# Altium schematic symbol library cat.SchLib: 117 symbols (part 4 of 4)
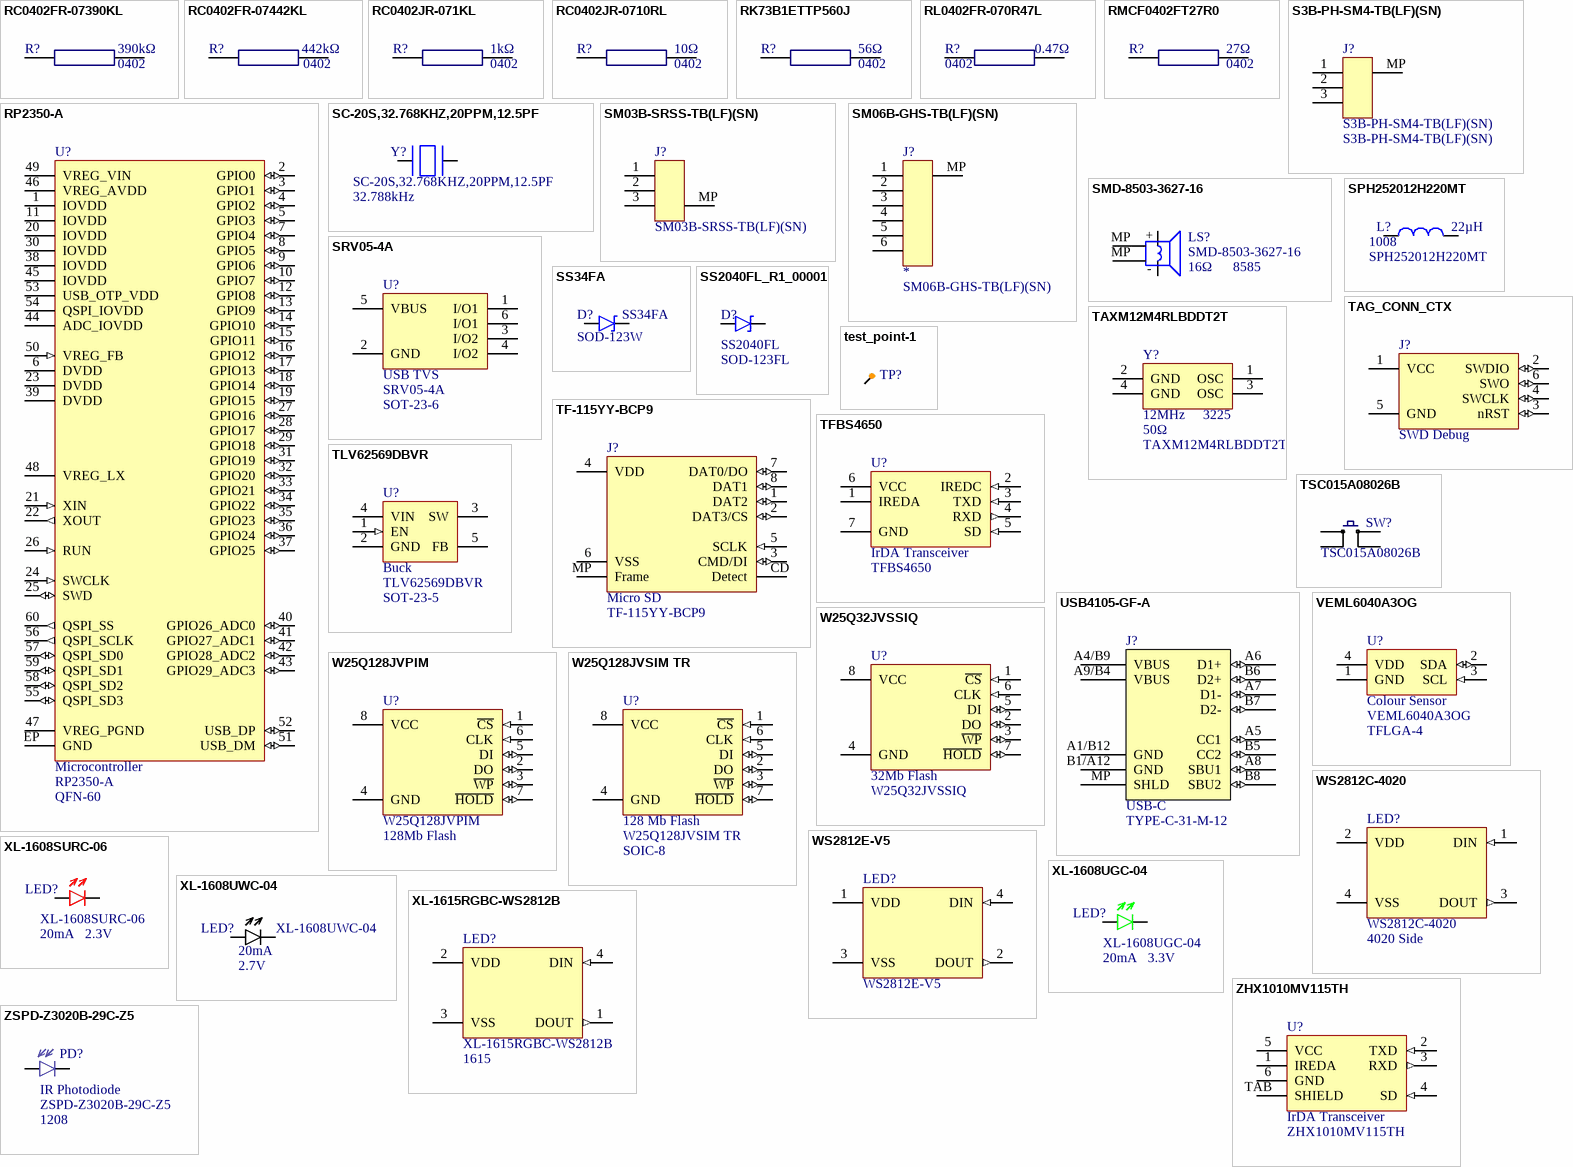
[diagram p5: symbols RC0402FR-07390KL to ZSPD-Z3020B-29C-Z5]

## S3B-PH-SM4-TB(LF)(SN)
designator J?
3-Pin JST-PH connector, 2mm pitch, right-angle SMD; Manufacturer: JST; Current Rating: 2A; Voltage Rating: 100V; Contact Resistance: 10mR; Number of Poles: 3; Insulation Resistance: 1GR; Gender: Male; Connector Type: Header; Supplier 1: LCSC; RoHS: Yes; Category: Headers and Wire Housings; Stock 1: 30540; Pricing 1: 5=0.223, 50=0.1765, 150=0.1538, 1000=0.1202, 2000=0.1152, 5000=0.1122 (USD); Mounting Technology: Surface Mount; Contact Material: Copper Alloy,Tin,Bronze,Brass; Contact Plating: Tin,Copper; Color: Natural,White; Housing Color: Beige; Housing Material: Polyamide; Material: Polyamide; Contact Shape: Square; Insulation Material: Nylon; Insulation Color: Natural; Contact Finish - Mating: TIN; Weight: 28.349523g; Min Operating Temperature: -25°C; Max Operating Temperature: 85°C; Number of Rows: 1; Voltage Rating (AC): 100V; Max Current Rating: 2A; Packaging: Tape and Reel; Number of Positions: 3; Termination: Solder; Fastening Type: Detent; Number of Contacts: 3; Working Voltage: 100V; Max Voltage Rating (AC): 100V; Max Voltage Rating (DC): 100V; Orientation: Right Angle; Contact Type: Male Pin; Voltage Rating (DC): 100V; Length: 9.9mm; Width: 5mm; Height: 9.4mm; Lead Pitch: 2mm; Pitch: 2mm; Contact Mating Length: 0.13inch; Depth: 7.6mm; Reach SVHC Compliant: No; Flammability Rating: UL94 V-0; Lead Free: 5697LeadFree; ComponentLink1URL: https://datasheet.ciiva.com/11748/0900766b80df0d9d-11748720.pdf?src-supplier=Rs; ComponentLink1Description: https://datasheet.ciiva.com/11748/0900766b80df0d9d-11748720.pdf?src-supplier=Rs; ComponentLink2URL: https://datasheet.ciiva.com/712/eph-712555.pdf?src-supplier=Digikey; ComponentLink2Description: https://datasheet.ciiva.com/712/eph-712555.pdf?src-supplier=Digikey; ComponentLink3URL: https://datasheet.ciiva.com/712/eph-712554.pdf?src-supplier=Digikey; ComponentLink3Description: https://datasheet.ciiva.com/712/eph-712554.pdf?src-supplier=Digikey; ComponentLink4URL: https://datasheet.ciiva.com/712/eph-712556.pdf?src-supplier=Digikey; ComponentLink4Description: https://datasheet.ciiva.com/712/eph-712556.pdf?src-supplier=Digikey; ComponentLink5URL: https://datasheet.ciiva.com/8052/80594-8052219.pdf?src-supplier=Element14; ComponentLink5Description: https://datasheet.ciiva.com/8052/80594-8052219.pdf?src-supplier=Element14; ComponentLink6URL: https://datasheet.ciiva.com/22693/80594-22693485.pdf?src-supplier=Element14; ComponentLink6Description: https://datasheet.ciiva.com/22693/80594-22693485.pdf?src-supplier=Element14; Supplier Part Number 1: C265101; Series: PH; house_part_number: S3B-PH-SM4-TB(LF)(SN); Manufacturer Part Number: S3B-PH-SM4-TB(LF)(SN)
footprint S3B-PH-SM4-TB
pins: 1, 2, 3, MP

## SC-20S,32.768KHZ,20PPM,12.5PF
designator Y?  Frequency: 32.788kHz
32.768kHz Crystal, 12.5pf, 2012; Manufacturer: Seiko; Supplier 1: LCSC; Supplier Part Number 1: C97607; Manufacturer Part Number: SC-20S,32.768KHZ,20PPM,12.5PF; RoHS: No; Stock: 8860; Pricing: 5=0.2255, 50=0.1827, 150=0.1644, 500=0.1415, 3000=0.1313, 6000=0.1252 (USD); house_part_number: SC-20S,32.768KHZ,20PPM,12.5PF
footprint 2012_crystal (2.0 × 1.2 × 0.6 mm Crystal)
pins: 1, 2

## SM03B-SRSS-TB(LF)(SN)
designator J?
3-Pin JST-SH connector, 1mm pitch, right-angle SMD; Manufacturer: JST; Supplier 1: LCSC; RoHS: Yes; Category: Connectors; Stock 1: 559145; Pricing 1: 5=0.1423, 50=0.1131, 150=0.0988, 500=0.086, 3000=0.0797, 6000=0.0776 (USD); ComponentLink1URL: https://datasheet.ciiva.com/26894/getdatasheetpartid-708885-26894671.pdf?src-supplier=Verical; ComponentLink1Description: https://datasheet.ciiva.com/26894/getdatasheetpartid-708885-26894671.pdf?src-supplier=Verical; ComponentLink2URL: https://datasheet.ciiva.com/16394/sm03b-srss-tblfsn-16394332.pdf?src-supplier=Future+Electronics; ComponentLink2Description: https://datasheet.ciiva.com/16394/sm03b-srss-tblfsn-16394332.pdf?src-supplier=Future+Electronics; ComponentLink3URL: https://datasheet.ciiva.com/8052/91630-8052263.pdf?src-supplier=Element14; ComponentLink3Description: https://datasheet.ciiva.com/8052/91630-8052263.pdf?src-supplier=Element14; Supplier Part Number 1: C160403; house_part_number: SM03B-SRSS-TB; Manufacturer Part Number: SM03B-SRSS-TB(LF)(SN)
footprint SM03B-SRSS-TB
pins: 1, 2, 3, MP

## SM06B-GHS-TB(LF)(SN)
designator J?  Manufacturer Part Number: SM06B-GHS-TB(LF)(SN)
6-Pin JST GH header, 1.25mm pitch, SMD right angle; Supplier 1: LCSC; Manufacturer: JST; RoHS: Yes; Category: Headers and Wire Housings; Stock 1: 1425; Pricing 1: 5=0.1587, 50=0.1251, 150=0.1087, 500=0.094, 2500=0.09, 5000=0.0876 (USD); ComponentLink1URL: https://datasheet.ciiva.com/25617/0900766b810cef18-25617251.pdf?src-supplier=Rs; ComponentLink1Description: https://datasheet.ciiva.com/25617/0900766b810cef18-25617251.pdf?src-supplier=Rs; ComponentLink2URL: https://datasheet.ciiva.com/16487/jstsm06b-ghs-tb-lf-sn-16487196.pdf?src-supplier=Future+Electronics; ComponentLink2Description: https://datasheet.ciiva.com/16487/jstsm06b-ghs-tb-lf-sn-16487196.pdf?src-supplier=Future+Electronics; Supplier Part Number 1: C133065
footprint SM06B-GHS-TB
pins: 1, 2, 3, 4, 5, 6, MP

## SMD-8503-3627-16
designator LS?  Resistance: 16Ω  package: 8585  (hidden comment: SMD-8503-3627-16)
16 Ω, 8.5 mm x 8.5 mm, SMD speaker; Manufacturer: S&S; Supplier 1: LCSC; RoHS: No; Category: Uncategorized; Stock 1: 6390; Pricing 1: 5=0.2676, 50=0.2148, 150=0.1922, 1000=0.1559, 2000=0.1433, 5000=0.1358 (USD); Supplier Part Number 1: C2685545; house_part_number: SMD-8503-3627-16; Manufacturer Part Number: SMD-8503-3627-16
footprint 8585_speaker
pins: +, -, MP (power), MP (power)

## SPH252012H220MT
designator L?  value 22µH  Case/Package: 1008  (hidden comment: SPH252012H220MT)
22 μH, .55A, 1008 Inductor; Manufacturer: Sunlord; Supplier: Digikey; Supplier Part Number: 3442-SPH252012H220MTCT-ND; RoHS: No; Category: Fixed Inductors; Stock: 945; Pricing: 1=0.35, 10=0.303, 25=0.2776, 50=0.2524, 100=0.2247, 250=0.21208, 500=0.1818, 1000=0.1616 (USD); RoHS Compliant: No; Manufacturer Part Number: SPH252012H220MT
footprint INDC2520X12N (Chip Inductor, 2-Leads, Body 2.50x2.00mm, IPC Medium Density)
pins: 1, 2

## SRV05-4A
designator U?, comment USB TVS  Case/Package: SOT-23-6  Manufacturer Part Number: SRV05-4A
TVS DIODE ARRAY SOT23-6; Manufacturer: SMC Diodes; Direction: Unidirectional,Bidirectional; Capacitance: 3.5pF; Operating Supply Voltage: 1.1V; Number of Channels: 2; Breakdown Voltage: 6V; Clamping Voltage: 17V; Reverse Standoff Voltage: 5.25V; Power Line Protection: Yes; Test Current: 1mA; Max Reverse Leakage Current: 150nA; Peak Pulse Current: 5A; Element Configuration: Dual; Data Rate: 480Mbps; Number of Elements: 1; Working Voltage: 5V; RoHS: Yes; Category: TVS Diodes; Stock: 12000; Pricing: 3000=0,05640 (USD); Mount: Surface Mount; Number of Pins: 6; Contact Plating: Tin,Matte; Min Operating Temperature: -40°C; Max Operating Temperature: 125°C; Packaging: Tape and Reel; Package Quantity: 3000; Termination: SMD/SMT; Number of Bidirectional Channels: 2; Min Breakdown Voltage: 6V; ESD Protection: Yes; Leakage Current: 150nA; Series: USB; Reverse Breakdown Voltage: 6V; Polarity: Unidirectional,Bidirectional; Max Breakdown Voltage: 6V; Clamping Voltage-Max: 17V; Length: 3.05mm; Width: 1.75mm; Height: 1.3mm; Depth: 1.75mm; Radiation Hardening: No; REACH SVHC: No SVHC; Lead Free: Lead Free; RoHS Compliant: Yes; ComponentLink1URL: https://datasheet.ciiva.com/1268/1690354-1268384.pdf?src-supplier=Element14; ComponentLink1Description: https://datasheet.ciiva.com/1268/1690354-1268384.pdf?src-supplier=Element14; ComponentLink2URL: https://datasheet.ciiva.com/4508/cd00050750-113117-4508433.pdf?src-supplier=Mouser; ComponentLink2Description: https://datasheet.ciiva.com/4508/cd00050750-113117-4508433.pdf?src-supplier=Mouser; ComponentLink3URL: https://datasheet.ciiva.com/15143/getdatasheetpartid-148465-15143789.pdf?src-supplier=Verical; ComponentLink3Description: https://datasheet.ciiva.com/15143/getdatasheetpartid-148465-15143789.pdf?src-supplier=Verical; ComponentLink4URL: https://datasheet.ciiva.com/16200/cd00050750-16200026.pdf?src-supplier=Future+Electronics; ComponentLink4Description: https://datasheet.ciiva.com/16200/cd00050750-16200026.pdf?src-supplier=Future+Electronics; ComponentLink5URL: https://datasheet.ciiva.com/41444/001184109-da-01-en-ic-esd-protecti-usblc6-2sc6-sot-23-6-stm-41444156.pdf?src-supplier=Conrad; ComponentLink5Description: https://datasheet.ciiva.com/41444/001184109-da-01-en-ic-esd-protecti-usblc6-2sc6-sot-23-6-stm-41444156.pdf?src-supplier=Conrad; Supplier 1: LCSC; Supplier Part Number 1: C260410; house_part_number: SRV05-4A
footprint SOT95P280X110-6N (SOT23, 6-Leads, Body 2,90x2,80mm, Pitch 0,95mm, IPC Medium Density)
pins: 1 I/O1, 2 GND, 3 I/O2, 4 I/O2, 5 VBUS, 6 I/O1

## SS34FA
designator D?  Case/Package: SOD-123W  (hidden comment: SS34FA)
40 V, 3 A Schottky Rectifier, SOD-123FA; Manufacturer: ON Semiconductor / Fairchild; house_part_number: D-SCHOTTKY-3A-SOD123F-002; Max Forward Surge Current (Ifsm): 80A; Max Repetitive Reverse Voltage (Vrrm): 40V; Average Rectified Current: 3A; Element Configuration: Single; Supplier: Avnet; Supplier Part Number: 01AC9736; RoHS: Yes; Category: Schottky Diodes; Stock: 2402; Pricing: 1=0.469, 25=0.4, 50=0.341, 100=0.281, 250=0.251 (USD); Mounting Technology: Surface Mount; Weight: 0.019g; Packaging: Cut Tape; Max Reverse Voltage (DC): 40V; Series: Automotive, AEC-Q101; RoHS Compliant: Yes; ComponentLink1URL: http://www.farnell.com/datasheets/2552647.pdf?src-supplier=Farnell; ComponentLink1Description: http://www.farnell.com/datasheets/2552647.pdf?src-supplier=Farnell; ComponentLink2URL: http://www.mouser.com/ds/2/149/SS34FA-1012641.pdf?src-supplier=Mouser; ComponentLink2Description: http://www.mouser.com/ds/2/149/SS34FA-1012641.pdf?src-supplier=Mouser; ComponentLink3URL: http://www.farnell.com/datasheets/2552647.pdf?src-supplier=Element14; ComponentLink3Description: http://www.farnell.com/datasheets/2552647.pdf?src-supplier=Element14; ComponentLink4URL: http://www.farnell.com/datasheets/2552647.pdf?src-supplier=Newark; ComponentLink4Description: http://www.farnell.com/datasheets/2552647.pdf?src-supplier=Newark; ComponentLink5URL: https://www.fairchildsemi.com/datasheets/SS/SS34FA.pdf?src-supplier=Digikey; ComponentLink5Description: https://www.fairchildsemi.com/datasheets/SS/SS34FA.pdf?src-supplier=Digikey; ComponentLink6URL: https://www.onsemi.com/pub/Collateral/SS36FA-D.PDF?src-supplier=Digikey; ComponentLink6Description: https://www.onsemi.com/pub/Collateral/SS36FA-D.PDF?src-supplier=Digikey; ComponentLink7URL: https://datasheet.octopart.com/SS34FA-ON-Semiconductor-datasheet-137713515.pdf?src-supplier=TME; ComponentLink7Description: https://datasheet.octopart.com/SS34FA-ON-Semiconductor-datasheet-137713515.pdf?src-supplier=TME; Supplier 1: LCSC; Supplier Part Number 1: C719833; Manufacturer Part Number: SS34FA
footprint SOD-123 (SODFL, 2-Leads, Body 1.78x3.70mm, IPC Medium Density)
pins: A, K

## SS2040FL_R1_00001
designator D?, comment SS2040FL  Case/Package: SOD-123FL
Schottky-diode 2A 40V SOD123FL; Manufacturer: Pan Jit; Manufacturer Part Number: SS2040FL_R1_00001; Max Reverse Current: 500uA; Peak Non-Repetitive Surge Current: 50A; Supplier: Mouser; Supplier Part Number: 241-SS2040FLR100001; RoHS: Yes; Category: Rectifier Diodes; Stock: 196343; Pricing: 1=0.19, 10=0.117, 50=0.117, 100=0.061, 1000=0.06, 10000=0.059 (USD); Mounting Technology: Surface Mount; Pins: 2; Min Operating Temperature: -50°C; Max Operating Temperature: 125°C; Max Repetitive Reverse Voltage (Vrrm): 40V; RoHS Compliant: Yes; ComponentLink1URL: http://www.panjit.com/upload/product/5/SS2020FL_SERIES.pdf?src-supplier=Avnet; ComponentLink1Description: http://www.panjit.com/upload/product/5/SS2020FL_SERIES.pdf?src-supplier=Avnet
footprint SOD-123 (SODFL, 2-Leads, Body 1.78x3.70mm, IPC Medium Density)
pins: A, K

## TAG_CONN_CTX
designator J?, comment SWD Debug  (no BOM)
Mates with TC-2030-CTX-NL; house_part_number: type-value-case-grade
footprint TAG-Connect (Debug header)
footprint debug_header_dual
pins: 1 VCC (power), 2 SWDIO (io), 3 nRST (io), 4 SWCLK (io), 5 GND (power), 6 SWO (io)

## TAXM12M4RLBDDT2T
designator Y?  value 12MHz  ESR: 50Ω  Case/Package: 3225  (hidden comment: TAXM12M4RLBDDT2T)
12 MHz, 10 ppm, 20 pF, 3225 Crystal; Supplier 1: LCSC; Supplier Part Number 1: C133334; house_part_number: TAXM12M4RLBDDT2T; Manufacturer Part Number: TAXM12M4RLBDDT2T
footprint 3225_crystal
pins: 1 OSC, 2 GND (power), 3 OSC, 4 GND (power)

## test_point-1
designator TP?  (value not drawn)  (no BOM)
Test point; pickable: no
footprint test_point-1 (Test point)
pins: 1

## TF-115YY-BCP9
designator J?, comment Micro SD  Manufacturer Part Number: TF-115YY-BCP9
Micro SD card holder; Manufacturer: Xunpu; Supplier 1: LCSC; RoHS: No; Category: Uncategorized; Stock 1: 3100; Pricing 1: 10=0.0587, 100=0.0477, 300=0.0423, 1000=0.0382, 5000=0.035, 10000=0.0334 (USD); Supplier Part Number 1: C5374810; house_part_number: TF-115YY-BCP9
footprint TF-115YY-BCP9 (Micro SD holder)
pins: 1 DAT2 (io) "Data line (bit 2)", 2 DAT3/CS (io) "Data line (bit 3) / Chip select", 3 CMD/DI (io) "Command response", 4 VDD (power) "Supply voltage", 5 SCLK (in) "Clock", 6 VSS (power) "Ground", 7 DAT0/DO (io) "Data line (bit 0)", 8 DAT1 (io) "Data line (bit 1)", CD Detect "Command response", MP Frame (power) "Ground"

## TFBS4650
designator U?, comment IrDA Transceiver  Manufacturer Part Number: TFBS4650
Ir Transceiver, 115.2 kbps, 500 nm, 886 nm; Manufacturer: Vishay Semiconductors; Operating Supply Voltage: 3.6V; Supplier: Future Electronics; Supplier Part Number: 4004512; RoHS: Yes; Category: Interface ICs; Stock: 5000; Pricing: 2500=2.24 (USD); Case/Package: SMD/SMT; Min Operating Temperature: -25°C; Max Operating Temperature: 85°C; Data Rate: 115.2Kbps; Packaging: Tape and Reel; Package Quantity: 2500; Orientation: Side View; Series: -; Size: 1.6mm; Radiation Hardening: No; RoHS Compliant: Yes; ComponentLink1URL: https://datasheet.ciiva.com/8121/tfbs4650-8121950.pdf?src-supplier=Avnet; ComponentLink1Description: https://datasheet.ciiva.com/8121/tfbs4650-8121950.pdf?src-supplier=Avnet; ComponentLink2URL: https://datasheet.ciiva.com/29189/tfbs4650-29189803.pdf?src-supplier=Digikey; ComponentLink2Description: https://datasheet.ciiva.com/29189/tfbs4650-29189803.pdf?src-supplier=Digikey
footprint TFBS4650
pins: 1 IREDA (power) "IRED anode, connected to VCC2.", 2 IREDC (in) "IRED cathode", 3 TXD (in) "Transmitter data input.", 4 RXD (out) "Receiver output. Receiver echoes transmitter output.", 5 SD (in) "Shutdown. Active high.", 6 VCC (power) "Power supply, 2.4 V to 5.5 V.", 7 GND (power) "Ground"

## TLV62569DBVR
designator U?, comment Buck  Manufacturer Part Number: TLV62569DBVR  Case/Package: SOT-23-5
Buck converter, 2.5-5.5 Vin, 0.6 - 5.5 Vout, 2A, SOT-23-5; Manufacturer: Texas Instruments; Output Type: Adjustable; Output Configuration: Positive; Min Input Voltage: 2.5V; Max Supply Voltage: 5.5V; Min Output Voltage: 600mV; Switching Frequency: 1.5MHz; Synchronous Rectifier: Yes; Supplier: Mouser; Supplier Part Number: 595-TLV62569DBVR; RoHS: Yes; Category: Voltage Regulators - Switching; Stock: 12579; Pricing: 1=0.45, 10=0.344, 50=0.344, 100=0.214, 1000=0.113, 10000=0.087 (USD); Mounting Technology: Surface Mount; Min Operating Temperature: -40°C; Max Operating Temperature: 125°C; Packaging: Cut Tape; Max Output Voltage: 5.5V; Output Current: 2A; Series: -; RoHS Compliant: Yes; ComponentLink1URL: http://www.ti.com/lit/ds/symlink/tlv62569.pdf?src-supplier=Digikey; ComponentLink1Description: http://www.ti.com/lit/ds/symlink/tlv62569.pdf?src-supplier=Digikey; ComponentLink2URL: http://www.ti.com/lit/ds/symlink/tlv62569.pdf?src-supplier=Farnell; ComponentLink2Description: http://www.ti.com/lit/ds/symlink/tlv62569.pdf?src-supplier=Farnell; Supplier 1: LCSC; Supplier Part Number 1: C141836; house_part_number: TLV62569DBVR
footprint SOT95P280X115-5N (SOT23, 5-Leads, Body 2.92x2.80mm, Pitch 0.95mm, IPC Medium Density)
pins: 1 EN (in) "Device enable logic input. Logic high enables the device, logic low disables the device and turns it into shutdown. Do not leave floating.", 2 GND (power) "Ground pin.", 3 SW (power) "Switch pin connected to the internal FET switches and inductor terminal. Connect the inductor of the output filter to this pin.", 4 VIN (power) "Power supply voltage input.", 5 FB (power) "Feedback pin for the internal control loop. Connect this pin to an external feedback divider."

## TSC015A08026B
designator SW?
Tactile switch, SPST; house_part_number: SW-TAC-4.5-8-260gf; Mechanical Life: 100000Cycles; Illumination Type: Non-Illuminated; Switch Function: Off-Mom; Actuator Type: Standard; Operating Force: 260gf; Switch Travel: 0.25mm; Ratings: IP40; RoHS: No; Category: Tactile Switches; Stock 1: 68566; Pricing 1: 1=0.13000, 10=0.12700, 25=0.12080, 100=0.10970, 250=0.10308, 500=0.09432, 1000=0.07897 (USD); Mount: Surface Mount; Min Operating Temperature: -20°C; Max Operating Temperature: 70°C; Throw Configuration: SPST; Packaging: Tape and Reel; Termination: Gull Wing; ComponentLink1URL: https://www.ckswitches.com/media/2567/pts647.pdf?src-supplier=Digi-Key; ComponentLink1Description: https://www.ckswitches.com/media/2567/pts647.pdf?src-supplier=Digi-Key; Height: 8mm; Manufacturer Part Number: TSC015A08026B
footprint TSC015A08026B
pins: 1, 2, 3, 4

## USB4105-GF-A
designator J?, comment USB-C  Manufacturer Part Number: TYPE-C-31-M-12
USB-C 2.0 Female Connector; Manufacturer: Global Connector Technology; Alternate Manufacturer: Korean HROparts Elec; Alternate Part Number: USB4105-GF-A; house_part_number: USB_C_2.0_M12; Connector Type: USB; Gender: Receptacle; Mating Cycles: 10000; Shielding: Shielded; Number of Ports: 1; Supplier 1: Farnell; Supplier Part Number 1: 3588205; RoHS: No; Category: USB Connectors; Stock: 1499; Pricing: 1=1, 20=3.07, 60=3.02, 160=2.64, 400=2.63 (EUR); Mounting Technology: Surface Mount,Through Hole,Horizontal; Contact Plating: Gold; Insulation Color: Black; Min Operating Temperature: -40°C; Max Operating Temperature: 85°C; Series: USB4105; Termination: Solder; Flammability Rating: UL94 V-0; ComponentLink1URL: https://gct.co/files/drawings/usb4105.pdf?src-supplier=Digi-Key; ComponentLink1Description: https://gct.co/files/drawings/usb4105.pdf?src-supplier=Digi-Key
footprint USB_C_2.0_M12 (HRO M12/GCT 4105 USB-C 2.0 CONNECTOR)
pins: A1/B12 GND (power) "Ground", A4/B9 VBUS (power) "Bus Power", A5 CC1 (io) "Configuration channel", A6 D1+ (io) "USB 2.0 differential pair, position 1, positive", A7 D1- (io) "USB 2.0 differential pair, position 1, negative", A8 SBU1 (io) "Sideband use", A9/B4 VBUS (power) "Bus Power", B1/A12 GND (power) "Ground", B5 CC2 (io) "Configuration channel", B6 D2+ (io) "USB 2.0 differential pair, position 2, positive", B7 D2- (io) "USB 2.0 differential pair, position 2, negative", B8 SBU2 (io) "Sideband use", MP SHLD

## VEML6040A3OG
designator U?, comment Colour Sensor  Manufacturer Part Number: VEML6040A3OG  Case/Package: TFLGA-4
VEML6040 Series 3.6 V 2 x 1.25 x 1 mm RGBW Color Sensor with I2C Interface; Manufacturer: Vishay Semiconductors; Min Supply Voltage: 2.5V; Max Supply Voltage: 3.6V; Resolution: 16b; Max Supply Current: 200uA; Supplier: Mouser; Supplier Part Number: 78-VEML6040A3OG; RoHS: Yes; Category: Connectors; Stock: 30873; Pricing: 1=2.38, 10=1.59, 50=1.59, 100=1.22, 1000=0.948, 10000=0.874 (USD); Pins: 4; Min Operating Temperature: -40°C; Max Operating Temperature: 85°C; Series: -; Packaging: Cut Tape; Lead Free: Lead Free; RoHS Compliant: Yes; Reach SVHC Compliant: Unknown; ComponentLink1URL: http://www.farnell.com/datasheets/2245071.pdf?src-supplier=Farnell; ComponentLink1Description: http://www.farnell.com/datasheets/2245071.pdf?src-supplier=Farnell; ComponentLink2URL: http://www.farnell.com/datasheets/1898465.pdf?src-supplier=Farnell; ComponentLink2Description: http://www.farnell.com/datasheets/1898465.pdf?src-supplier=Farnell; ComponentLink3URL: http://www.vishay.com/docs/84276/veml6040.pdf?src-supplier=Digikey; ComponentLink3Description: http://www.vishay.com/docs/84276/veml6040.pdf?src-supplier=Digikey; ComponentLink4URL: https://datasheet.octopart.com/VEML6040A3OG-Vishay-datasheet-78835460.pdf?src-supplier=Newark; ComponentLink4Description: https://datasheet.octopart.com/VEML6040A3OG-Vishay-datasheet-78835460.pdf?src-supplier=Newark; ComponentLink5URL: http://www.farnell.com/datasheets/2245071.pdf?src-supplier=Newark; ComponentLink5Description: http://www.farnell.com/datasheets/2245071.pdf?src-supplier=Newark; ComponentLink6URL: https://datasheet.octopart.com/VEML6040A3OG-Vishay-datasheet-39160295.pdf?src-supplier=Element14; ComponentLink6Description: https://datasheet.octopart.com/VEML6040A3OG-Vishay-datasheet-39160295.pdf?src-supplier=Element14
footprint LGA-4 (VEML6040A3OG Color Sensor)
pins: 1 GND (power), 2 SDA (io), 3 SCL (in), 4 VDD (power)

## W25Q32JVSSIQ
designator U?, comment 32Mb Flash  Manufacturer Part Number: W25Q32JVSSIQ
32 Mb SPI flash memory; Manufacturer: Winbond; Memory Format: Non-Volatile,FLASH,NOR; Frequency: 133MHz; Interface: SPI,Serial; Operating Supply Voltage: 3V; Page Size: 256B; Access Time: 6ns; Supplier 1: Arrow Electronics; Supplier Part Number 1: W25Q32JVSSIQ; RoHS: Yes; Category: Flash; Stock: 1509; Pricing: 1=0.7312, 10=0.6566, 25=0.6437, 90=0.5704, 270=0.5588, 540=0.5419, 1080=0.5254, 5040=0.479 (USD); Mounting Technology: Surface Mount; Case/Package: SOIC; Pins: 8; Min Operating Temperature: -40°C; Max Operating Temperature: 85°C; Packaging: Rail/Tube; Series: SpiFlash®; Memory Size: 32Mb; Density: 32Mb; Height: 2.16mm; RoHS Compliant: Yes; ComponentLink1URL: https://www.winbond.com/hq/product/code-storage-flash-memory/serial-nor-flash/?__locale=en&partNo=W25Q32JV&src-supplier=Avnet; ComponentLink1Description: https://www.winbond.com/hq/product/code-storage-flash-memory/serial-nor-flash/?__locale=en&partNo=W25Q32JV&src-supplier=Avnet; ComponentLink2URL: http://www.winbond.com/resource-files/w25q32jv%20revg%2003272018%20plus.pdf?src-supplier=Digikey; ComponentLink2Description: http://www.winbond.com/resource-files/w25q32jv%20revg%2003272018%20plus.pdf?src-supplier=Digikey; house_part_number: W25Q32JVSSIQ
footprint SOIC-8_wide
pins: 1 ~{CS} (in), 2 DO (io), 3 ~{WP} (io), 4 GND (power), 5 DI (io), 6 CLK (in), 7 ~{HOLD} (io), 8 VCC (power)

## W25Q128JVPIM
designator U?, comment 128Mb Flash  Manufacturer Part Number: W25Q128JVPIM
128Mb SPI flash memory; Manufacturer: Winbond; Description: NOR Flash Serial (SPI, Dual SPI, Quad SPI) 3V/3.3V 128M-bit 16M x 8 6ns 8-Pin WSON EP T/R/Tray/Tube; Memory Format: Non-Volatile,FLASH; Frequency: 133MHz; Supplier: Digikey; Supplier Part Number: W25Q128JVPIM-ND; RoHS: Yes; Category: Flash; Pricing: 1=1.86, 10=1.328, 25=1.1948, 50=1.115, 100=1.049, 300=0.9675, 500=0.95002 (USD); Mounting Technology: Surface Mount; Min Operating Temperature: -40°C; Max Operating Temperature: 85°C; Packaging: Rail/Tube; Memory Size: 128Mb; Series: SpiFlash®; RoHS Compliant: Yes; ComponentLink1URL: http://www.winbond.com/resource-files/w25q128jv%20revf%2003272018%20plus.pdf?src-supplier=Digikey; ComponentLink1Description: http://www.winbond.com/resource-files/w25q128jv%20revf%2003272018%20plus.pdf?src-supplier=Digikey; ComponentLink2URL: https://datasheet.octopart.com/W25Q128JVPIQ-Winbond-datasheet-151870813.pdf?src-supplier=TECHDesign; ComponentLink2Description: https://datasheet.octopart.com/W25Q128JVPIQ-Winbond-datasheet-151870813.pdf?src-supplier=TECHDesign; Case/Package: WDFN-8
footprint SON127P500X80_HS-9N (SON, 8-Leads, Body 6.00x5.00mm, Pitch 1.27mm, Thermal Pad 3.50x3.19mm, IPC Medium Density)
pins: 1 ~{CS} (in), 2 DO (io), 3 ~{WP} (io), 4 GND (power), 5 DI (io), 6 CLK (in), 7 ~{HOLD} (io), 8 VCC (power)

## W25Q128JVSIM TR
designator U?, comment 128 Mb Flash  Manufacturer Part Number: W25Q128JVSIM TR  Case/Package: SOIC-8
128Mb SPI flash memory; Manufacturer: Winbond; house_part_number: W25Q128JVSIM; Memory Type: Non-Volatile,FLASH; Frequency: 133MHz; Supplier 1: Digi-Key; Stock 1: 0; Pricing 1: 1=1.69, 10=1.545, 25=1.5028, 50=1.495, 100=1.3364, 250=1.3325, 500=1.3124, 1000=1.2567 (USD); Mount: Surface Mount; Number of Pins: 8; Min Operating Temperature: -40°C; Max Operating Temperature: 85°C; Packaging: Cut Tape; Memory Size: 128Mb; ComponentLink1URL: http://www.winbond.com/resource-files/w25q128jv_dtr%20revc%2003272018%20plus.pdf?src-supplier=Digi-Key; ComponentLink1Description: http://www.winbond.com/resource-files/w25q128jv_dtr%20revc%2003272018%20plus.pdf?src-supplier=Digi-Key; Supplier Part Number 1: W25Q128JVSIMCT-ND
footprint SOIC-8_wide
pins: 1 ~{CS} (in), 2 DO (io), 3 ~{WP} (io), 4 GND (power), 5 DI (io), 6 CLK (in), 7 ~{HOLD} (io), 8 VCC (power)

## WS2812C-4020
designator LED?  Package: 4020 Side  (hidden comment: WS2812C-4020)
1-wire addressable RGB LED, 4020 side firing; Manufacturer: WORLDSEMI; Category: Uncategorized; house_part_number: WS2812C-4020; Manufacturer Part Number: WS2812C-4020
footprint WS2812C-4020
pins: 1 DIN (in) "Control data signal input", 2 VDD (power) "Power supply pin", 3 DOUT (out) "Control data signal output", 4 VSS (power) "Signal ground and power ground"

## WS2812E-V5
designator LED?
1-wire addressable RGB LED, 5050; Manufacturer: WORLDSEMI; Supplier 1: LCSC; RoHS: No; Category: Uncategorized; Stock 1: 20520; Pricing 1: 10=0.0559, 100=0.0464, 300=0.0416, 1000=0.038, 4500=0.0315, 9000=0.0301 (USD); Supplier Part Number 1: C2920042; house_part_number: WS2812E-V5; Manufacturer Part Number: WS2812E-V5
footprint WS2812E-V5
pins: 1 VDD (power) "Power supply pin", 2 DOUT (out) "Control data signal output", 3 VSS (power) "Signal ground and power ground", 4 DIN (in) "Control data signal input"

## XL-1608SURC-06
designator LED?  Current: 20mA  Forward Voltage: 2.3V  (hidden comment: XL-1608SURC-06)
Red LED, 1.9 - 2.3 V, 20 mA, 0603; Manufacturer: XINGLIGHT; Supplier 1: LCSC; RoHS: No; Stock 1: 3172200; Pricing 1: 100=0.0029, 1000=0.0022, 4000=0.0019, 8000=0.0017, 48000=0.0015 (USD); Supplier Part Number 1: C965799; house_part_number: XL-1608SURC-06; Manufacturer Part Number: XL-1608SURC-06
footprint 0603_DIODE
pins: 1, 2

## XL-1608UGC-04
designator LED?  Current: 20mA  Forward Voltage: 3.3V  (hidden comment: XL-1608UGC-04)
Green LED, 2.7 - 3.3 V, 20 mA, 0603; Manufacturer: XINGLIGHT; Supplier 1: LCSC; RoHS: No; Stock 1: 2830700; Pricing 1: 100=0.0042, 1000=0.0033, 4000=0.0027, 8000=0.0024, 48000=0.0023, 100000=0.0022 (USD); Supplier Part Number 1: C965804; house_part_number: XL-1608UGC-04; Manufacturer Part Number: XL-1608UGC-04
footprint 0603_DIODE
pins: 1, 2

## XL-1608UWC-04
designator LED?  Forward Voltage: 2.7V  Current: 20mA  (hidden comment: XL-1608UWC-04)
White LED, 2.7-3.0 V, 20 mA, 0603; Manufacturer: XINGLIGHT; Supplier 1: LCSC; RoHS: No; Stock 1: 1278300; Pricing 1: 100=0.0055, 1000=0.0044, 4000=0.0035, 8000=0.0032, 48000=0.0028, 100000=0.0027 (USD); Supplier Part Number 1: C965808; Manufacturer Part Number: XL-1608UWC-04
footprint 0603_DIODE
pins: 1, 2

## XL-1615RGBC-WS2812B
designator LED?, comment Package: 1615  Manufacturer Part Number: XL-1615RGBC-WS2812B  (hidden comment: WS2812B)
1-wire addressable RGB LED, 1615; Manufacturer: XINGLIGHT; Supplier 1: LCSC; RoHS: No; Stock 1: 257799; Pricing 1: 10=0.0454, 100=0.0362, 300=0.0315, 1000=0.0276, 4000=0.0263, 8000=0.0253 (USD); Supplier Part Number 1: C5349954
footprint XL-1615RGBC-WS2812B (RGB LED)
pins: 1 DOUT (out) "Control data signal output", 2 VDD (power) "Power supply pin", 3 VSS (power) "Signal ground and power ground", 4 DIN (in) "Control data signal input"

## ZHX1010MV115TH
designator U?, comment IrDA Transceiver  Manufacturer Part Number: ZHX1010MV115TH
IRDA MODULE 115.2KBPS 6SMD; Manufacturer: Ixys Zilog; Operating Supply Voltage: 5.5V; Wavelength: 875nm; Supplier 1: Digikey; Supplier Part Number 1: ZHX1010MV115TH-ND; RoHS: No; Category: Optical Sensors; Case/Package: Module; Min Operating Temperature: -30°C; Max Operating Temperature: 85°C; Packaging: Tape and Reel; Orientation: Side View; Size: 4mm; Lead Free: Contains Lead; house_part_number: ZHX1010MV115TH
footprint ZHX1010 (IrDA Transceiver)
pins: 1 IREDA (power) "IRED anode", 2 TXD (in) "Transmitter data input.", 3 RXD (out) "Receiver output. Receiver echoes transmitter output.", 4 SD (in) "Shutdown. Active high. (Low=enabled)", 5 VCC (power) "Power supply, 2.4 V to 5.5 V.", 6 GND (power) "Ground", TAB SHIELD (power) "Ground"

## ZSPD-Z3020B-29C-Z5
designator PD?, comment IR Photodiode  Case/Package: 1208  Manufacturer Part Number: ZSPD-Z3020B-29C-Z5
IR Photodiode, 940nm; Supplier 1: LCSC; Supplier Part Number 1: C7186337; Peak Response Wavelength: 940nm; house_part_number: ZSPD-Z3020B-29C-Z5
footprint ZSPD-Z3020B-29C-Z5
pins: A, K